# Altium footprint library eth_e002.PcbLib: 18 footprints (part 1 of 2)
Each footprint in its own frame and in the unit in brackets; x right, y up, seen from the top. Pads: shape width x height; smd on the part's side, far side on the other; paste and mask are expansions set on the pad; w line width, h text height; cw(c..) or ccw(c..) is an arc to the next point about the centre after c.
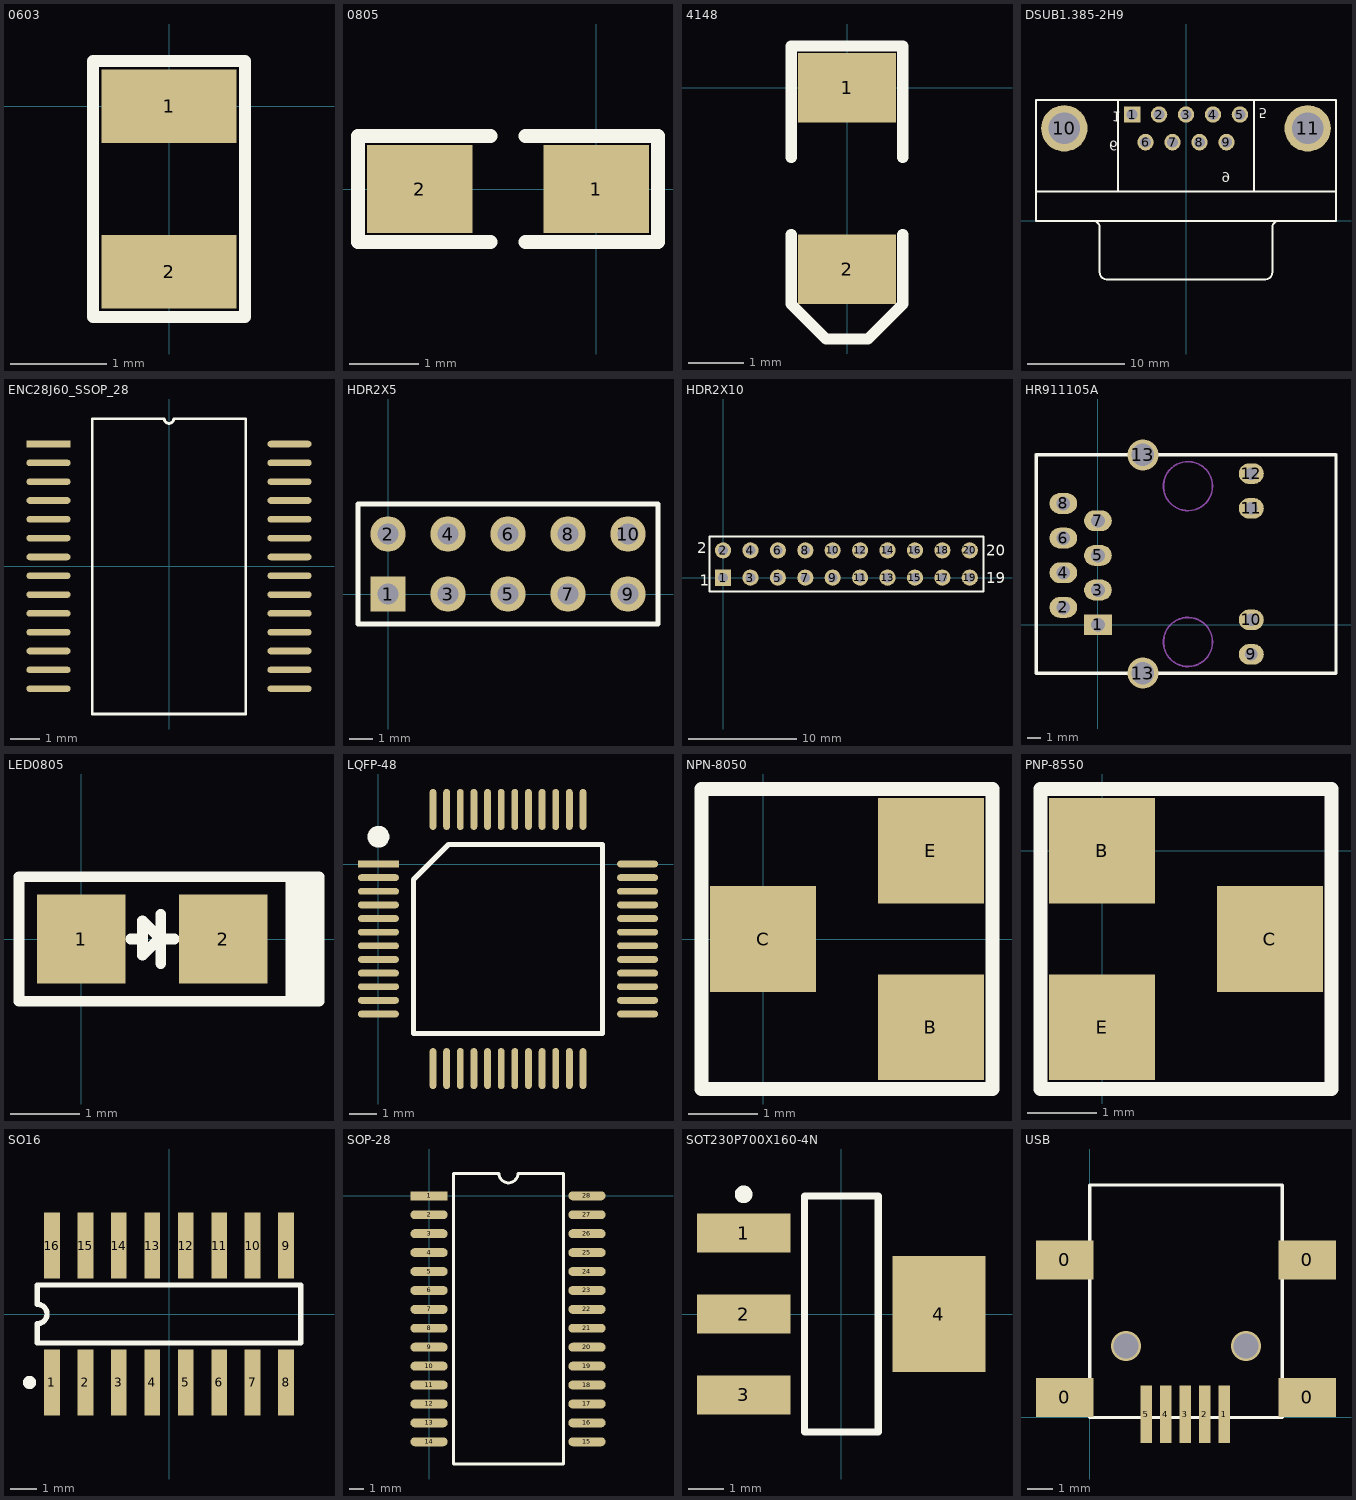
[diagram p0: the footprints below, top view; thin cyan lines are the x and y axes]

## 0603 [mil]
pads (2):
  rect 55x30 smd: 1(0,0) 2(0,-67.5)
Top Overlay:
  lines w5: -31,-86 31,-86 31,18.5 -19.5,18.5 -31,18.5 -31,-86

## 0805 [mil]
height 51.18
pads (2):
  rect 60x50 smd: 1(0,0) 2(-100,0)
Top Overlay:
  lines w8: -60,-30 -135,-30 -135,30 -60,30 ; -40,-30 35,-30 35,30 -40,30

## 4148 [mil]
pads (2):
  rect 70x50 smd: 1(0,0) 2(0,-130)
Top Overlay:
  lines w8: -40,-105 -40,-155 -15,-180 15,-180 40,-155 40,-105 ; -40,-50 -40,30 40,30 40,-50

## DSUB1.385-2H9 [mm]
height 12.75
pads (11):
  rect 1.69x1.69 hole 1.09: 1(-5.54,10.92)
  round 1.69 hole 1.09: 2(-2.77,10.92) 3(0,10.92) 4(2.77,10.92) 5(5.54,10.92) 6(-4.155,8.08) 7(-1.385,8.08) 8(1.385,8.08) 9(4.155,8.08)
  round 4.76 hole 3.26: 10(-12.495,9.5) 11(12.495,9.5)
Top Overlay:
  lines w0.2: -15.4,3 15.4,3 ; -9.56,-0.005 cw(c-9.56,-0.7) -8.865,-0.7 -8.865,-5.3 ; -8.86,-5.305 ccw(c-8.165,-5.305) -8.165,-6 8.165,-6 ccw(c8.165,-5.305) 8.86,-5.305 ; -7,3 -7,12.4 ; 7,3 7,12.4 ; 8.865,-5.3 8.865,-0.7 cw(c9.56,-0.7) 9.56,-0.005 ; -15.4,0 15.4,0 15.4,12.4 -15.4,12.4 -15.4,0
  text "6" at -7.881,8.216 h1
  text "9" at 3.655,4.975 h1
  text "5" at 7.461,11.544 h1
  text "1" at -7.551,11.213 h1

## ENC28J60_SSOP_28 [mil]
height 23.62
pads (28):
  rect 60x9 smd: 1(-163.94,166.34)
  oval 60x9 smd: 2(-163.94,140.75) 3(-163.94,115.16) 4(-163.94,89.57) 5(-163.94,63.98) 6(-163.94,38.39) 7(-163.94,12.8) 8(-163.94,-12.8) 9(-163.94,-38.39) 10(-163.94,-63.98) 11(-163.94,-89.57) 12(-163.94,-115.16) 13(-163.94,-140.75) 14(-163.94,-166.34) 15(163.94,-166.34) 16(163.94,-140.75) 17(163.94,-115.16) 18(163.94,-89.57) 19(163.94,-63.98) 20(163.94,-38.39) 21(163.94,-12.8) 22(163.94,12.8) 23(163.94,38.39) 24(163.94,63.98) 25(163.94,89.57) 26(163.94,115.16) 27(163.94,140.75) 28(163.94,166.34)
Top Overlay:
  lines w3.94: -104.33,-200.79 -104.33,200.79 -6.4,200.79 ccw(c0,200.79) 6.4,200.79 104.33,200.79 104.33,-200.79 -104.33,-200.79

## HDR2X5 [mm]
pads (10):
  rect 1.5x1.5 hole 0.9: 1(0,0)
  round 1.5 hole 0.9: 2(0,2.54) 3(2.54,0) 4(2.54,2.54) 5(5.08,0) 6(5.08,2.54) 7(7.62,0) 8(7.62,2.54) 9(10.16,0) 10(10.16,2.54)
Top Overlay:
  lines w0.2: -1.27,-1.27 -1.27,3.81 11.43,3.81 11.43,-1.27 -1.27,-1.27

## HDR2X10 [mm]
pads (20):
  rect 1.5x1.5 hole 0.9: 1(0,0)
  round 1.5 hole 0.9: 2(0,2.54) 3(2.54,0) 4(2.54,2.54) 5(5.08,0) 6(5.08,2.54) 7(7.62,0) 8(7.62,2.54) 9(10.16,0) 10(10.16,2.54) 11(12.7,0) 12(12.7,2.54) 13(15.24,0) 14(15.24,2.54) 15(17.78,0) 16(17.78,2.54) 17(20.32,0) 18(20.32,2.54) 19(22.86,0) 20(22.86,2.54)
Top Overlay:
  lines w0.2: -1.27,-1.27 0.635,-1.27 24.13,-1.27 24.13,3.81 0.635,3.81 -1.27,3.81 -1.27,-1.27
  text "20" at 24.384,2.032 h1
  text "19" at 24.384,-0.508 h1
  text "1" at -2.159,-0.762 h1
  text "2" at -2.413,2.286 h1

## HR911105A [mil]
pads (14):
  rect 80x60 hole 40: 1(0,0)
  oval 80x60 hole 40: 2(-100,50) 3(0,100) 4(-100,150) 5(0,200) 6(-100,250) 7(0,300) 8(-100,350)
  oval 72x60 hole 36: 9(442.91,-85.63) 10(442.91,14) 11(442.91,335.87) 12(442.91,436)
  round 90 hole 65: 13(129.92,-139.76) 13(129.92,490.16)
Top Overlay:
  lines w10: -178.74,-140 -178.5,-139.76 ; -178.74,490 -178.58,490.16 ; -178.58,490.16 129.92,490.16 687.24,490.16 687.4,490 687.4,-140 687.17,-139.76 129.92,-139.76 -178.5,-139.76 ; -178.58,490.16 -178.58,-139.69 -178.5,-139.76
Mechanical 1:
  circle w5: c260,400 r70.8
  circle w5: c260,-50 r70.8

## LED0805 [mil]
pads (2):
  rect 50x50 smd: 1(0,0) 2(80,0)
Top Overlay:
  lines w6: 28,0 32.4,0 ; 44.9,-13.8 44.9,14 ; 47.4,0 52.4,0 ; 118,-35 118,35 ; 124,-35 124,35 ; 129,-35 129,35 ; -35,-35 -35,35 134,35 134,-35 -35,-35 ; 34.6,-9.1 34.6,-6.8 34.6,10.2 44.25,0.55 34.6,-9.1

## LQFP-48 [mm]
height 0.6
pads (48):
  rect 1.5x0.25 smd: 1(0,0)
  oval 1.5x0.25 smd: 2(0,-0.5) 3(0,-1) 4(0,-1.5) 5(0,-2) 6(0,-2.5) 7(0,-3) 8(0,-3.5) 9(0,-4) 10(0,-4.5) 11(0,-5) 12(0,-5.5) 25(9.5,-5.5) 26(9.5,-5) 27(9.5,-4.5) 28(9.5,-4) 29(9.5,-3.5) 30(9.5,-3) 31(9.5,-2.5) 32(9.5,-2) 33(9.5,-1.5) 34(9.5,-1) 35(9.5,-0.5) 36(9.5,0)
  oval 0.25x1.5 smd: 13(2,-7.5) 14(2.5,-7.5) 15(3,-7.5) 16(3.5,-7.5) 17(4,-7.5) 18(4.5,-7.5) 19(5,-7.5) 20(5.5,-7.5) 21(6,-7.5) 22(6.5,-7.5) 23(7,-7.5) 24(7.5,-7.5) 37(7.5,2) 38(7,2) 39(6.5,2) 40(6,2) 41(5.5,2) 42(5,2) 43(4.5,2) 44(4,2) 45(3.5,2) 46(3,2) 47(2.5,2) 48(2,2)
Top Overlay:
  circle w0.4: c0,1 r0.2
  lines w0.2: 1.285,-6.215 8.215,-6.215 8.215,0.715 2.57,0.715 1.285,-0.57 1.285,-6.215

## NPN-8050 [mil]
pads (3):
  rect 60x60 smd: B(95,-50) C(0,0) E(95,50)
Top Overlay:
  lines w8: -35,-85 130,-85 130,85 -35,85 -35,-85

## PNP-8550 [mil]
pads (3):
  rect 60x60 smd: B(0,0) C(95,-50) E(0,-100)
Top Overlay:
  lines w8: -35,-135 130,-135 130,35 -35,35 -35,-135

## SO16 [mm]
height 1.75
pads (16):
  rect 0.6x2.5 smd: 1(-4.445,-2.6) 2(-3.175,-2.6) 3(-1.905,-2.6) 4(-0.635,-2.6) 5(0.635,-2.6) 6(1.905,-2.6) 7(3.175,-2.6) 8(4.445,-2.6) 9(4.445,2.6) 10(3.175,2.6) 11(1.905,2.6) 12(0.635,2.6) 13(-0.635,2.6) 14(-1.905,2.6) 15(-3.175,2.6) 16(-4.445,2.6)
Top Overlay:
  circle w0.25: c-5.295,-2.6 r0.125
  lines w0.2: -5,-1.1 -5,-0.367 ccw(c-5,0) -5,0.367 -5,1.1 5,1.1 5,-1.1 -5,-1.1

## SOP-28 [mm]
pads (28):
  rect 2.5x0.6 smd: 1(0,0)
  oval 2.5x0.6 smd: 2(0,-1.27) 3(0,-2.54) 4(0,-3.81) 5(0,-5.08) 6(0,-6.35) 7(0,-7.62) 8(0,-8.89) 9(0,-10.16) 10(0,-11.43) 11(0,-12.7) 12(0,-13.97) 13(0,-15.24) 14(0,-16.51) 15(10.6,-16.51) 16(10.6,-15.24) 17(10.6,-13.97) 18(10.6,-12.7) 19(10.6,-11.43) 20(10.6,-10.16) 21(10.6,-8.89) 22(10.6,-7.62) 23(10.6,-6.35) 24(10.6,-5.08) 25(10.6,-3.81) 26(10.6,-2.54) 27(10.6,-1.27) 28(10.6,0)
Top Overlay:
  lines w0.2: 1.651,-17.999 1.651,1.501 4.694,1.501 ccw(c5.329,1.501) 5.964,1.501 9.017,1.501 9.017,-17.999 1.651,-17.999

## SOT230P700X160-4N [mm]
height 1.6
pads (4):
  rect 2.65x1.1 smd: 1(-2.775,2.3) 2(-2.775,0) 3(-2.775,-2.3)
  rect 2.65x3.3 smd: 4(2.775,0)
Top Overlay:
  circle w0.25: c-2.775,3.4 r0.125
  lines w0.2: -1.05,-3.35 1.05,-3.35 1.05,3.35 -1.05,3.35 -1.05,-3.35

## USB [mm]
height 0.6
pads (9):
  rect 2.3x1.55 smd: 0(-1,0.8) 0(-1,6.3) 0(8.7,0.8) 0(8.7,6.3)
  rect 0.46x2.3 smd: 1(5.39,0.127) 2(4.605,0.127) 3(3.82,0.127) 4(3.035,0.127) 5(2.25,0.127)
via 1.45,2.85 diameter 1.2 hole 1
via 6.25,2.85 diameter 1.2 hole 1
Top Overlay:
  lines w0.127: 0,0 0,9.3 7.7,9.3 7.7,0 0,0